# EAGLE library part SI8380P (library IntegratedLib)
Isolador Digital 8 canais 2.5kV (QSOP-20)
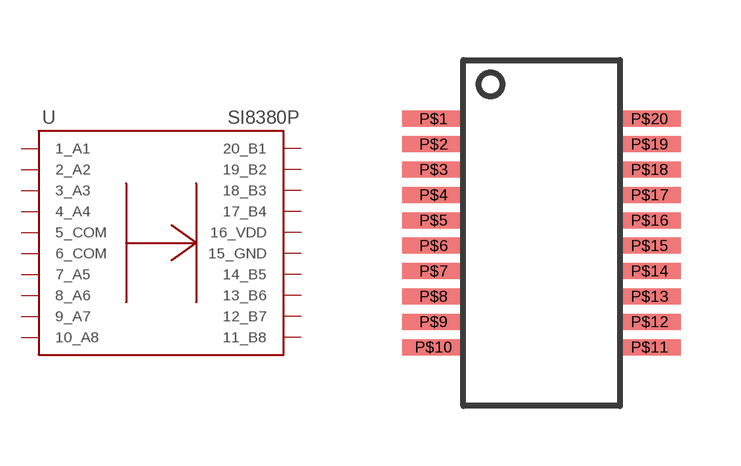
[diagram p35: symbol with the pads of QSOP-20; footprint QSOP-20]

Designator prefix U

## SI8380P (FABRICANTE: SILICON LABS; PARTNUMBER: SI8380P; TIPO: CIRCUITO INTEGRADO)  [QSOP-20]
P$1  1_A1  pwr
P$2  2_A2  pwr
P$3  3_A3  pwr
P$4  4_A4  in
P$5  5_COM  in
P$6  6_COM  in
P$7  7_A5  out
P$8  8_A6
P$9  9_A7  pwr
P$10  10_A8  pwr
P$11  11_B8  pwr
P$12  12_B7  pwr
P$13  13_B6
P$14  14_B5  in
P$15  15_GND  out
P$16  16_VDD  out
P$17  17_B4  out
P$18  18_B3  pwr
P$19  19_B2  pwr
P$20  20_B1  pwr

## Footprint QSOP-20 (pad centres in mm)
smd 1.55 x 0.4: P$1 -2.7,2.857; P$2 -2.7,2.223; P$3 -2.7,1.587; P$4 -2.7,0.953; P$5 -2.7,0.318; P$6 -2.7,-0.318; P$7 -2.7,-0.953; P$8 -2.7,-1.587; P$9 -2.7,-2.223; P$10 -2.7,-2.857; P$11 2.7,-2.857; P$12 2.7,-2.223; P$13 2.7,-1.587; P$14 2.7,-0.953; P$15 2.7,-0.318; P$16 2.7,0.318; P$17 2.7,0.953; P$18 2.7,1.587; P$19 2.7,2.223; P$20 2.7,2.857